# Altium footprint library RES_THT_025W.PcbLib: 10 footprints
Each footprint in its own frame and in the unit in brackets; x right, y up, seen from the top. Pads: shape width x height; smd on the part's side, far side on the other; paste and mask are expansions set on the pad; w line width, h text height; cw(c..) or ccw(c..) is an arc to the next point about the centre after c.
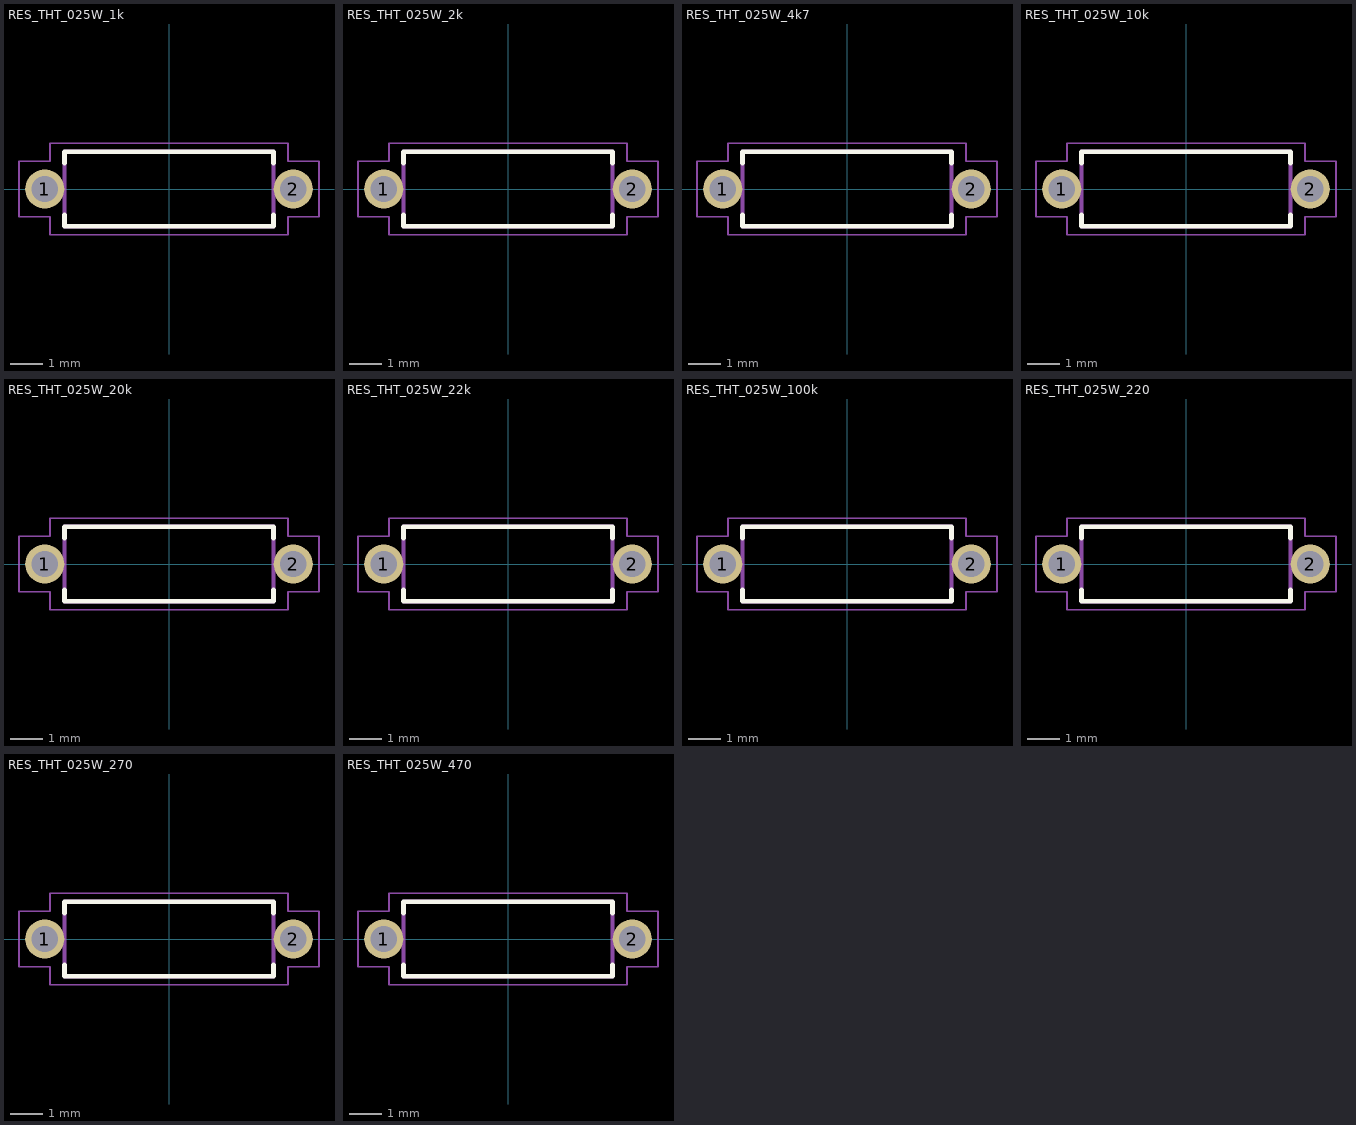
[diagram p0: the footprints below, top view; thin cyan lines are the x and y axes]

## RES_THT_025W_1k [mm]
pads (2):
  round 1.2 hole 0.8: 1(-3.81,0) 2(3.81,0)
Top Overlay:
  lines w0.15: -3.2,-0.8 -3.2,-1.143 3.2,-1.143 3.2,-0.8 ; -3.2,0.8 -3.2,1.143 3.2,1.143 3.2,0.8
Mechanical 13:
  lines w0.127: -3.2,-1.143 3.2,-1.143 3.2,0.2 3.2,1.143 -3.2,1.143 -3.2,0.2 -3.2,-1.143
Mechanical 15:
  lines w0.05: -4.6,-0.85 -4.6,0.85 -3.65,0.85 -3.65,1.4 3.65,1.4 3.65,0.85 4.6,0.85 4.6,-0.85 3.65,-0.85 3.65,-1.4 -3.65,-1.4 -3.65,-0.85 -4.6,-0.85
3D body "Res-7.62-6.3x2.3-1k.step": height 2.87, standoff -3, extent -4.06,-1.161 4.06,1.161

## RES_THT_025W_2k [mm]
pads (2):
  round 1.2 hole 0.8: 1(-3.81,0) 2(3.81,0)
Top Overlay:
  lines w0.15: -3.2,-0.8 -3.2,-1.143 3.2,-1.143 3.2,-0.8 ; -3.2,0.8 -3.2,1.143 3.2,1.143 3.2,0.8
Mechanical 13:
  lines w0.127: -3.2,-1.143 3.2,-1.143 3.2,0.2 3.2,1.143 -3.2,1.143 -3.2,0.2 -3.2,-1.143
Mechanical 15:
  lines w0.05: -4.6,-0.85 -4.6,0.85 -3.65,0.85 -3.65,1.4 3.65,1.4 3.65,0.85 4.6,0.85 4.6,-0.85 3.65,-0.85 3.65,-1.4 -3.65,-1.4 -3.65,-0.85 -4.6,-0.85
3D body "Res-7.62-6.3x2.3-2k.step": height 2.87, standoff -3, extent -4.06,-1.161 4.06,1.161

## RES_THT_025W_4k7 [mm]
pads (2):
  round 1.2 hole 0.8: 1(-3.81,0) 2(3.81,0)
Top Overlay:
  lines w0.15: -3.2,-0.8 -3.2,-1.143 3.2,-1.143 3.2,-0.8 ; -3.2,0.8 -3.2,1.143 3.2,1.143 3.2,0.8
Mechanical 13:
  lines w0.127: -3.2,-1.143 3.2,-1.143 3.2,0.2 3.2,1.143 -3.2,1.143 -3.2,0.2 -3.2,-1.143
Mechanical 15:
  lines w0.05: -4.6,-0.85 -4.6,0.85 -3.65,0.85 -3.65,1.4 3.65,1.4 3.65,0.85 4.6,0.85 4.6,-0.85 3.65,-0.85 3.65,-1.4 -3.65,-1.4 -3.65,-0.85 -4.6,-0.85
3D body "Res-7.62-6.3x2.3-4.7k.step": height 2.87, standoff -3, extent -4.06,-1.161 4.06,1.161

## RES_THT_025W_10k [mm]
pads (2):
  round 1.2 hole 0.8: 1(-3.81,0) 2(3.81,0)
Top Overlay:
  lines w0.15: -3.2,-0.8 -3.2,-1.143 3.2,-1.143 3.2,-0.8 ; -3.2,0.8 -3.2,1.143 3.2,1.143 3.2,0.8
Mechanical 13:
  lines w0.127: -3.2,-1.143 3.2,-1.143 3.2,0.2 3.2,1.143 -3.2,1.143 -3.2,0.2 -3.2,-1.143
Mechanical 15:
  lines w0.05: -4.6,-0.85 -4.6,0.85 -3.65,0.85 -3.65,1.4 3.65,1.4 3.65,0.85 4.6,0.85 4.6,-0.85 3.65,-0.85 3.65,-1.4 -3.65,-1.4 -3.65,-0.85 -4.6,-0.85
3D body "Res-7.62-6.3x2.3-10k.step": height 2.87, standoff -3, extent -4.06,-1.161 4.06,1.161

## RES_THT_025W_20k [mm]
pads (2):
  round 1.2 hole 0.8: 1(-3.81,0) 2(3.81,0)
Top Overlay:
  lines w0.15: -3.2,-0.8 -3.2,-1.143 3.2,-1.143 3.2,-0.8 ; -3.2,0.8 -3.2,1.143 3.2,1.143 3.2,0.8
Mechanical 13:
  lines w0.127: -3.2,-1.143 -3.2,0.2 -3.2,1.143 3.2,1.143 3.2,0.2 3.2,-1.143 -3.2,-1.143
Mechanical 15:
  lines w0.05: -4.6,-0.85 -3.65,-0.85 -3.65,-1.4 3.65,-1.4 3.65,-0.85 4.6,-0.85 4.6,0.85 3.65,0.85 3.65,1.4 -3.65,1.4 -3.65,0.85 -4.6,0.85 -4.6,-0.85
3D body "Res-7.62-6.3x2.3-20k.step": height 2.87, standoff -3, extent -4.06,-1.161 4.06,1.161

## RES_THT_025W_22k [mm]
pads (2):
  round 1.2 hole 0.8: 1(-3.81,0) 2(3.81,0)
Top Overlay:
  lines w0.15: -3.2,-0.8 -3.2,-1.143 3.2,-1.143 3.2,-0.8 ; -3.2,0.8 -3.2,1.143 3.2,1.143 3.2,0.8
Mechanical 13:
  lines w0.127: -3.2,-1.143 -3.2,0.2 -3.2,1.143 3.2,1.143 3.2,0.2 3.2,-1.143 -3.2,-1.143
Mechanical 15:
  lines w0.05: -4.6,-0.85 -3.65,-0.85 -3.65,-1.4 3.65,-1.4 3.65,-0.85 4.6,-0.85 4.6,0.85 3.65,0.85 3.65,1.4 -3.65,1.4 -3.65,0.85 -4.6,0.85 -4.6,-0.85
3D body "Res-7.62-6.3x2.3-22k.step": height 2.87, standoff -3, extent -4.06,-1.161 4.06,1.161

## RES_THT_025W_100k [mm]
pads (2):
  round 1.2 hole 0.8: 1(-3.81,0) 2(3.81,0)
Top Overlay:
  lines w0.15: -3.2,-0.8 -3.2,-1.143 3.2,-1.143 3.2,-0.8 ; -3.2,0.8 -3.2,1.143 3.2,1.143 3.2,0.8
Mechanical 13:
  lines w0.127: -3.2,-1.143 3.2,-1.143 3.2,0.2 3.2,1.143 -3.2,1.143 -3.2,0.2 -3.2,-1.143
Mechanical 15:
  lines w0.05: -4.6,-0.85 -4.6,0.85 -3.65,0.85 -3.65,1.4 3.65,1.4 3.65,0.85 4.6,0.85 4.6,-0.85 3.65,-0.85 3.65,-1.4 -3.65,-1.4 -3.65,-0.85 -4.6,-0.85
3D body "Res-7.62-6.3x2.3-100k.step": height 2.87, standoff -3, extent -4.06,-1.161 4.06,1.161

## RES_THT_025W_220 [mm]
pads (2):
  round 1.2 hole 0.8: 1(-3.81,0) 2(3.81,0)
Top Overlay:
  lines w0.15: -3.2,-0.8 -3.2,-1.143 3.2,-1.143 3.2,-0.8 ; -3.2,0.8 -3.2,1.143 3.2,1.143 3.2,0.8
Mechanical 13:
  lines w0.127: -3.2,-1.143 3.2,-1.143 3.2,0.2 3.2,1.143 -3.2,1.143 -3.2,0.2 -3.2,-1.143
Mechanical 15:
  lines w0.05: -4.6,-0.85 -4.6,0.85 -3.65,0.85 -3.65,1.4 3.65,1.4 3.65,0.85 4.6,0.85 4.6,-0.85 3.65,-0.85 3.65,-1.4 -3.65,-1.4 -3.65,-0.85 -4.6,-0.85
3D body "Res-7.62-6.3x2.3-220.step": height 2.87, standoff -3, extent -4.06,-1.161 4.06,1.161

## RES_THT_025W_270 [mm]
pads (2):
  round 1.2 hole 0.8: 1(-3.81,0) 2(3.81,0)
Top Overlay:
  lines w0.15: -3.2,-0.8 -3.2,-1.143 3.2,-1.143 3.2,-0.8 ; -3.2,0.8 -3.2,1.143 3.2,1.143 3.2,0.8
Mechanical 13:
  lines w0.127: -3.2,-1.143 3.2,-1.143 3.2,0.2 3.2,1.143 -3.2,1.143 -3.2,0.2 -3.2,-1.143
Mechanical 15:
  lines w0.05: -4.6,-0.85 -4.6,0.85 -3.65,0.85 -3.65,1.4 3.65,1.4 3.65,0.85 4.6,0.85 4.6,-0.85 3.65,-0.85 3.65,-1.4 -3.65,-1.4 -3.65,-0.85 -4.6,-0.85
3D body "Res-7.62-6.3x2.3-270.step": height 2.87, standoff -3, extent -4.047,-1.216 4.073,1.107

## RES_THT_025W_470 [mm]
pads (2):
  round 1.2 hole 0.8: 1(-3.81,0) 2(3.81,0)
Top Overlay:
  lines w0.15: -3.2,-0.8 -3.2,-1.143 3.2,-1.143 3.2,-0.8 ; -3.2,0.8 -3.2,1.143 3.2,1.143 3.2,0.8
Mechanical 13:
  lines w0.127: -3.2,-1.143 -3.2,0.2 -3.2,1.143 3.2,1.143 3.2,0.2 3.2,-1.143 -3.2,-1.143
Mechanical 15:
  lines w0.05: -4.6,-0.85 -3.65,-0.85 -3.65,-1.4 3.65,-1.4 3.65,-0.85 4.6,-0.85 4.6,0.85 3.65,0.85 3.65,1.4 -3.65,1.4 -3.65,0.85 -4.6,0.85 -4.6,-0.85
3D body "Res-7.62-6.3x2.3-470.step": height 2.87, standoff -3, extent -4.06,-1.161 4.06,1.161